# EAGLE library part BTN7930 (library zkseagle)
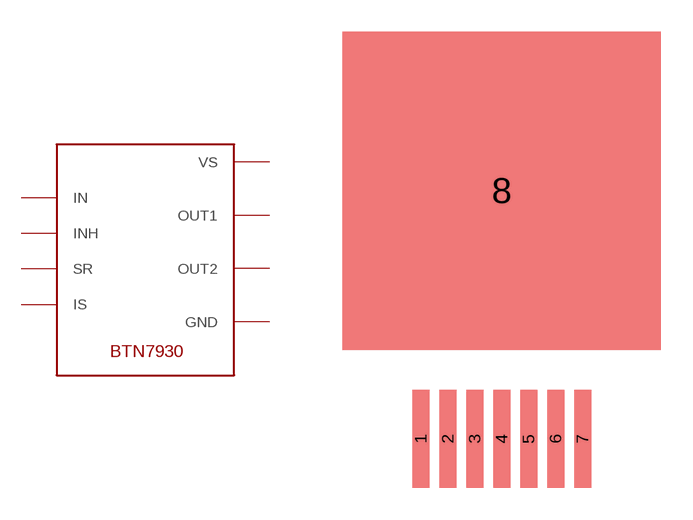
[diagram p20: symbol with the pads of TO263-7_P; footprint TO263-7_P]

Designator prefix -

## BTN7930  [TO263-7_P]
1  GND  pwr
2  IN  in
3  INH  in
4  OUT1  pwr
5  SR
6  IS
7  VS  pwr
8  OUT2  pwr

## Footprint TO263-7_P (pad centres in mm)
Mini Small Outline Package
smd 0.8 x 4.6: 1 0,0; 2 1.27,0; 3 2.54,0; 4 3.81,0; 5 5.08,0; 6 6.35,0; 7 7.62,0
smd 15 x 15: 8 3.81,11.684